# Altium footprint library mw.PcbLib: 123 footprints (part 7 of 8)
Each footprint in its own frame and in the unit in brackets; x right, y up, seen from the top. Pads: shape width x height; smd on the part's side, far side on the other; paste and mask are expansions set on the pad; w line width, h text height; cw(c..) or ccw(c..) is an arc to the next point about the centre after c.
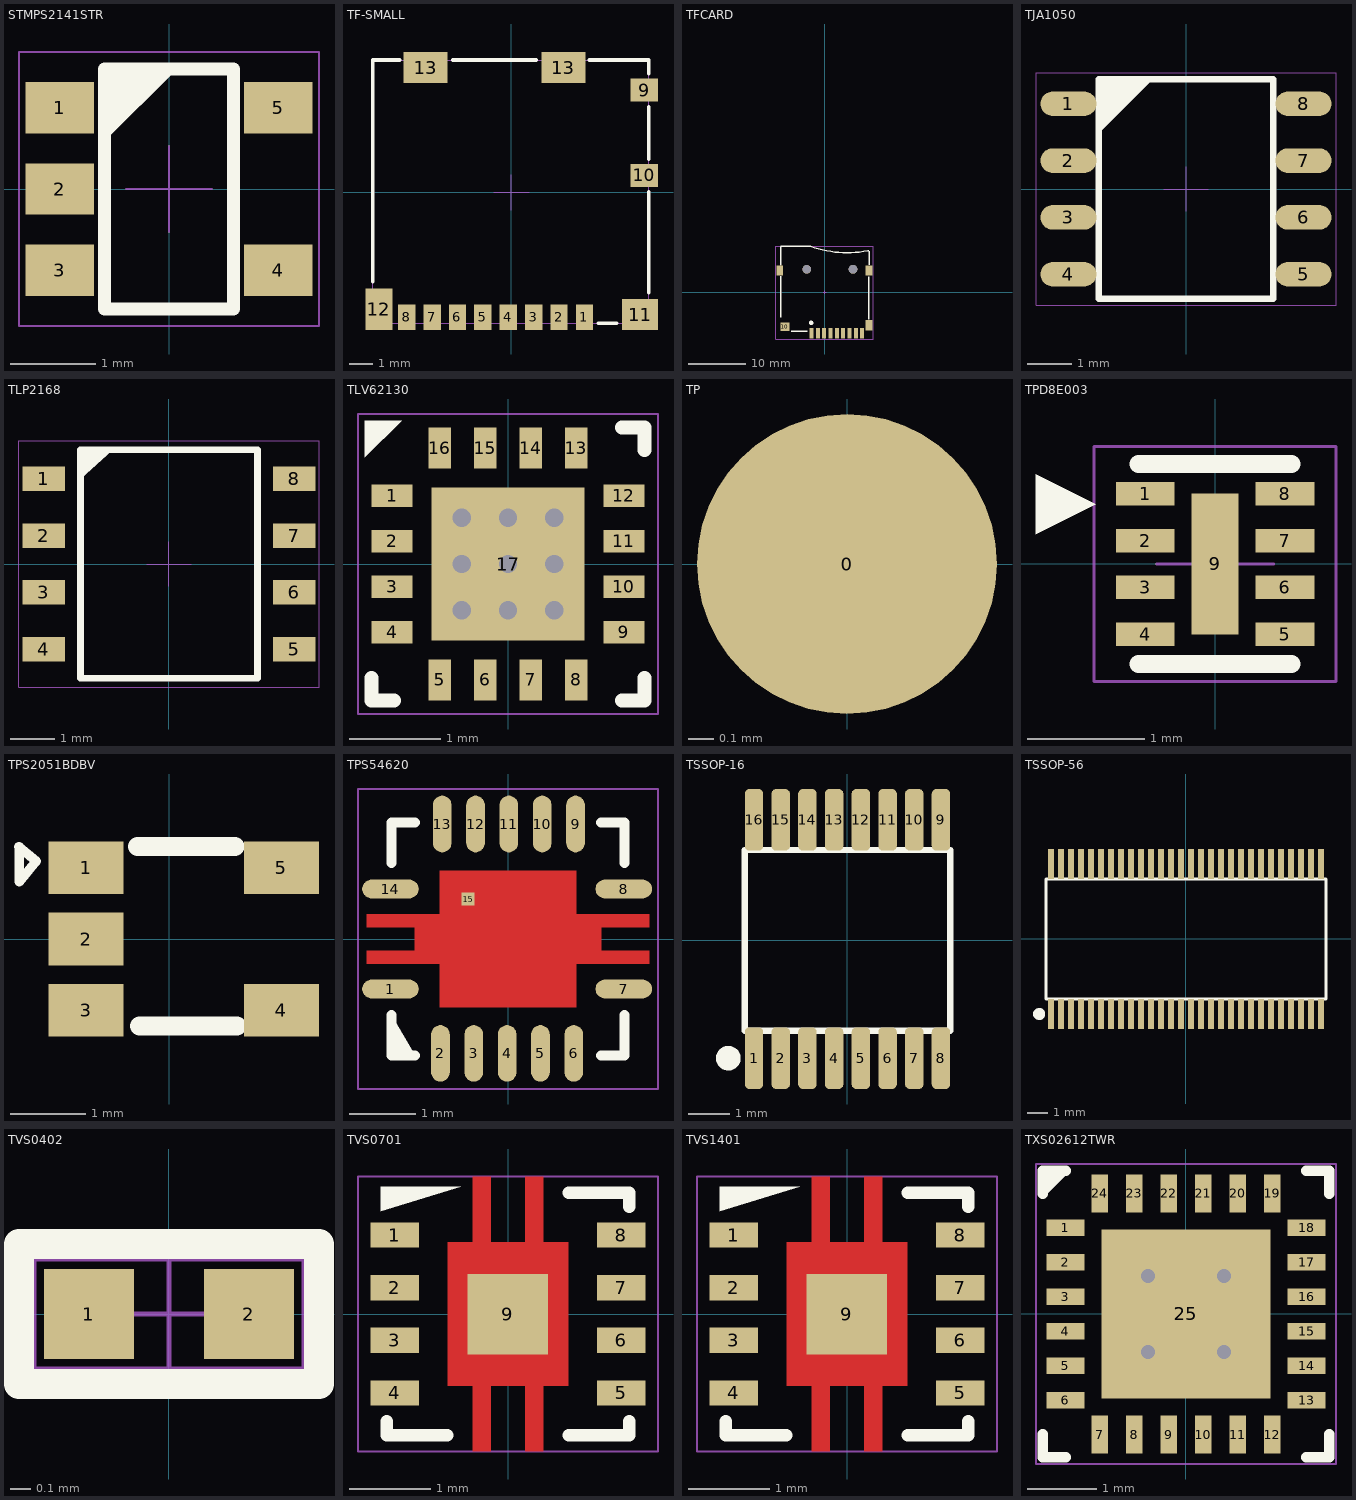
[diagram p6: the footprints below, top view; thin cyan lines are the x and y axes]

## STMPS2141STR [mm] "SOT23, 5-Leads, Body 2.90x2.80mm, Pitch 0.95mm, IPC High Density"
height 0.9
pads (5):
  rect 0.8x0.6 smd: 1(-1.275,0.95) 2(-1.275,0) 3(-1.275,-0.95) 4(1.275,-0.95) 5(1.275,0.95)
Top Overlay:
  region: -0.754,0.555 0.077,1.387 0.077,1.39 -0.741,1.39 -0.749,1.397
  lines w0.152: -0.75,-1.4 -0.75,1.4 0.75,1.4 0.75,-1.4 -0.75,-1.4
Mechanical 15:
  lines w0.025: -0.5,0 0.5,0 ; 0,-0.5 0,0.5 ; -1.75,-1.6 1.75,-1.6 1.75,1.6 -1.75,1.6 -1.75,-1.6

## TF-SMALL [mm]
pads (14):
  rect 0.75x1.1 smd: 1(3.163,-5.412) 2(2.063,-5.412) 3(0.962,-5.412) 4(-0.137,-5.412) 5(-1.237,-5.412) 6(-2.337,-5.412) 7(-3.437,-5.412) 8(-4.537,-5.412)
  rect 1.2x1 smd: 9(5.748,4.438) 10(5.748,0.738)
  rect 1.55x1.35 smd: 11(5.573,-5.287)
  rect 1.17x1.8 smd: 12(-5.747,-5.062)
  rect 1.9x1.35 smd: 13(-3.722,5.413) 13(2.248,5.413)
Top Overlay:
  lines w0.152: -6.008,-3.862 -6.008,5.738 -4.832,5.738 ; -2.532,5.738 1.068,5.738 ; 3.368,5.738 5.942,5.738 5.942,5.138 ; 3.768,-5.662 4.568,-5.662 ; 5.942,-4.337 5.942,0.038 ; 5.942,1.438 5.942,3.712
Mechanical 15:
  lines w0.025: -0.762,0 0.762,0 ; 0,-0.762 0,0.762 ; -6.008,-5.662 -6.008,5.738 5.942,5.738 5.942,-5.662 -6.008,-5.662

## TFCARD [mil]
pads (15):
  rect 27.56x70.87 smd: 1(-92,-280.5) 2(-48.69,-280.5) 3(-5.39,-280.5) 4(37.92,-280.5) 5(81.23,-280.5) 6(124.54,-280.5) 7(167.84,-280.5) 8(211.15,-280.5) 9(254.46,-280.5)
  rect 62.99x59.06 smd: 10(-273.1,-235.22)
  rect 47.24x70.87 smd: 11(301.7,-225.38) 12(301.7,148.63) 13(-308.54,148.63)
  round 59.06 hole 59.06 unplated: ""(-124,156.51) ""(192,156.51)
Top Overlay:
  circle w29.53: c-93.86,-210 r1
  lines w10: -301.54,-172.5 -301.54,107.5 ; -301.54,185.5 -301.54,311.5 ; -301.54,313.5 -98.06,313.5 ccw(c151.13,1000.55) 292.46,283.5 300.46,283.5 ; -231.54,-266.5 -119.54,-266.5 ; 300.46,-184.5 300.46,105.5 ; 302.46,187.5 302.46,281.5
Mechanical 15:
  lines w1: -10,0 10,0 ; 0,-10 0,10 ; -335,-320 -335,315 330,315 330,-320 -335,-320
Multi-Layer:
  circle w1: c-123.5,156.51 r29.64
  circle w1: c191.46,156.51 r29.64

## TJA1050 [mm]
height 1.75
pads (8):
  oval 1.25x0.55 smd: 1(-2.625,1.905) 2(-2.625,0.635) 3(-2.625,-0.635) 4(-2.625,-1.905) 5(2.625,-1.905) 6(2.625,-0.635) 7(2.625,0.635) 8(2.625,1.905)
Top Overlay:
  region: -1.936,2.371 -1.916,2.391 -0.8,2.391 -1.95,1.241
  lines w0.152: -1.95,-2.45 -1.95,2.45 1.95,2.45 1.95,-2.45 -1.95,-2.45
Mechanical 15:
  lines w0.025: -0.5,0 0.5,0 ; 0,-0.5 0,0.5 ; -3.35,-2.6 -3.35,2.6 3.35,2.6 3.35,-2.6 -3.35,-2.6
3D body "tja1050.STEP": height 1.66, standoff 0, extent -3.078,-2.483 3.077,2.417

## TLP2168 [mm]
pads (8):
  rect 0.95x0.55 smd: 1(-2.8,1.905) 2(-2.8,0.635) 3(-2.8,-0.635) 4(-2.8,-1.905) 5(2.8,-1.905) 6(2.8,-0.635) 7(2.8,0.635) 8(2.8,1.905)
Top Overlay:
  region: -1.27,2.54 -1.975,1.905 -1.975,2.55
  lines w0.152: -1.975,-2.55 1.975,-2.55 1.975,2.55 -1.975,2.55 -1.975,-2.55
Mechanical 15:
  lines w0.025: -0.5,0 0.5,0 ; 0,-0.5 0,0.5 ; -3.35,-2.75 3.35,-2.75 3.35,2.75 -3.35,2.75 -3.35,-2.75

## TLV62130 [mm] "PQFN, 16-Leads, Body 3.00x3.00mm, Pitch 0.50mm, Thermal Pad 1.68x1.68mm, IPC High Density"
height 1
pads (17):
  rect 0.45x0.25 smd: 1(-1.275,0.75) 2(-1.275,0.25) 3(-1.275,-0.25) 4(-1.275,-0.75) 9(1.275,-0.75) 10(1.275,-0.25) 11(1.275,0.25) 12(1.275,0.75)
  rect 0.25x0.45 smd: 5(-0.75,-1.275) 6(-0.25,-1.275) 7(0.25,-1.275) 8(0.75,-1.275) 13(0.75,1.275) 14(0.25,1.275) 15(-0.25,1.275) 16(-0.75,1.275)
  rect 1.68x1.68 smd: 17(0,0)
via -0.508,0 diameter 0.45 hole 0.2
via 0,0.508 diameter 0.45 hole 0.2
via -0.508,0.508 diameter 0.45 hole 0.2
via 0.508,0.508 diameter 0.45 hole 0.2
via 0,0 diameter 0.45 hole 0.2
via 0.508,0 diameter 0.45 hole 0.2
via -0.508,-0.508 diameter 0.45 hole 0.2
via 0,-0.508 diameter 0.45 hole 0.2
via 0.508,-0.508 diameter 0.45 hole 0.2
Top Overlay:
  region: -1.17,1.577 -1.575,1.172 -1.575,1.577
  lines w0.152: -1.5,-1.251 -1.5,-1.5 -1.251,-1.5 ; 1.251,-1.5 1.5,-1.5 1.5,-1.251 ; 1.251,1.5 1.5,1.5 1.5,1.251
Mechanical 15:
  lines w0.025: -0.5,0 0.5,0 ; 0,-0.5 0,0.5 ; -1.65,-1.65 1.65,-1.65 1.65,1.65 -1.65,1.65 -1.65,-1.65

## TP [mm]
pads (1):
  round 1.2 smd: 0(0,0)

## TPD8E003 [mm] "SON, 8-Leads, Body 1.70x1.35mm, Pitch 0.40mm, Thermal Pad 1.20x0.40mm, IPC High Density"
height 0.75
pads (9):
  rect 0.5x0.2 smd: 1(-0.595,0.6) 2(-0.595,0.2) 3(-0.595,-0.2) 4(-0.595,-0.6) 5(0.595,-0.6) 6(0.595,-0.2) 7(0.595,0.2) 8(0.595,0.6)
  rect 0.4x1.2 smd: 9(0,0)
Top Overlay:
  region: -1.524,0.762 -1.524,0.254 -1.016,0.508
  lines w0.152: -0.65,-0.85 0.65,-0.85 ; -0.65,0.85 0.65,0.85
Mechanical 15:
  lines w0.025: -0.5,0 0.5,0 ; 0,-0.5 0,0.5 ; -1.03,-1 1.03,-1 1.03,1 -1.03,1 -1.03,-1

## TPS2051BDBV [mm] "TPS2051BDBV"
pads (5):
  rect 1x0.7 smd: 1(-1.104,0.95) 2(-1.104,0) 3(-1.104,-0.95) 4(1.496,-0.95) 5(1.496,0.95)
Top Overlay:
  lines w0.127: -1.996,1.228 -1.768,1.037 -1.993,0.759 -1.993,1.229
  lines w0.254: -0.418,1.229 0.877,1.229 ; -0.393,-1.158 0.903,-1.158

## TPS54620 [mm] "VQFN_3_5"
pads (15):
  oval 0.85x0.28 smd paste-0.04: 1(-1.763,-0.75) 7(1.737,-0.75) 8(1.737,0.75) 14(-1.763,0.75)
  oval 0.28x0.85 smd paste-0.04: 2(-1.013,-1.716) 3(-0.513,-1.716) 4(-0.013,-1.716) 5(0.487,-1.716) 6(0.987,-1.716) 9(1.013,1.725) 10(0.513,1.725) 11(0.013,1.725) 12(-0.487,1.725) 13(-0.987,1.725)
  rect 0.2x0.2 smd paste+0: 15(-0.6,0.6)
Top Layer:
  region: -1.35,-0.175 -2.124,-0.175 -2.124,-0.375 -1.35,-0.375
  region: -1.35,0.375 -2.124,0.375 -2.124,0.175 -1.35,0.175
  region: -1.013,0.375 -1.4,0.375 -1.4,-0.375 -1.013,-0.375
  rectangle: 1.35,0.175 2.125,0.375
  rectangle: 1.35,-0.375 2.125,-0.175
  rectangle: 1.013,-0.375 1.4,0.375
  rectangle: -1.025,-1.025 1.025,1.025
Top Overlay:
  region: -1.753,-1.139 -1.394,-1.75 -1.75,-1.75
  lines w0.152: -1.75,-1.143 -1.75,-1.75 -1.397,-1.75 ; -1.75,1.143 -1.75,1.75 -1.397,1.75 ; 1.397,-1.75 1.75,-1.75 1.75,-1.143 ; 1.397,1.75 1.75,1.75 1.75,1.143
Top Paste:
  rectangle: -1.025,0.15 -0.15,1.027
  region: 0.15,1.025 0.15,0.15 1.027,0.15 1.027,1.025
  region: 1.025,-0.15 0.15,-0.15 0.15,-1.027 1.025,-1.027
  region: -0.15,-1.025 -0.15,-0.15 -1.027,-0.15 -1.027,-1.025
Mechanical 15:
  lines w0.025: -0.254,0 0.254,0 ; 0,-0.254 0,0.254 ; -2.25,-2.25 2.25,-2.25 2.25,2.25 -2.25,2.25 -2.25,-2.25
3D body "tps54620.STEP": height 0.82, standoff 0, extent -1.77,-1.77 1.77,1.77

## TSSOP-16 [mm]
pads (16):
  rrect50% 0.45x1.5 smd: 1(-2.275,-2.866) 2(-1.625,-2.866) 3(-0.975,-2.866) 4(-0.325,-2.866) 5(0.325,-2.866) 6(0.975,-2.866) 7(1.625,-2.866) 8(2.275,-2.866) 9(2.275,2.934) 10(1.625,2.934) 11(0.975,2.934) 12(0.325,2.934) 13(-0.325,2.934) 14(-0.975,2.934) 15(-1.625,2.934) 16(-2.275,2.934)
Top Overlay:
  circle w0.3: c-2.899,-2.866 r0.15
  lines w0.152: -2.5,-2.2 -2.5,2.2 2.5,2.2 2.5,-2.2 -2.5,-2.2

## TSSOP-56 [mm]
pads (56):
  rect 0.3x1.5 smd: 1(-6.75,-3.75) 2(-6.25,-3.75) 3(-5.75,-3.75) 4(-5.25,-3.75) 5(-4.75,-3.75) 6(-4.25,-3.75) 7(-3.75,-3.75) 8(-3.25,-3.75) 9(-2.75,-3.75) 10(-2.25,-3.75) 11(-1.75,-3.75) 12(-1.25,-3.75) 13(-0.75,-3.75) 14(-0.25,-3.75) 15(0.25,-3.75) 16(0.75,-3.75) 17(1.25,-3.75) 18(1.75,-3.75) 19(2.25,-3.75) 20(2.75,-3.75) 21(3.25,-3.75) 22(3.75,-3.75) 23(4.25,-3.75) 24(4.75,-3.75) 25(5.25,-3.75) 26(5.75,-3.75) 27(6.25,-3.75) 28(6.75,-3.75) 29(6.75,3.75) 30(6.25,3.75) 31(5.75,3.75) 32(5.25,3.75) 33(4.75,3.75) 34(4.25,3.75) 35(3.75,3.75) 36(3.25,3.75) 37(2.75,3.75) 38(2.25,3.75) 39(1.75,3.75) 40(1.25,3.75) 41(0.75,3.75) 42(0.25,3.75) 43(-0.25,3.75) 44(-0.75,3.75) 45(-1.25,3.75) 46(-1.75,3.75) 47(-2.25,3.75) 48(-2.75,3.75) 49(-3.25,3.75) 50(-3.75,3.75) 51(-4.25,3.75) 52(-4.75,3.75) 53(-5.25,3.75) 54(-5.75,3.75) 55(-6.25,3.75) 56(-6.75,3.75)
Top Overlay:
  circle w0.3: c-7.342,-3.75 r0.15
  lines w0.152: -7,-3 7,-3 7,3 -7,3 -7,-3

## TVS0402 [mm] "TVS0402"
pads (2):
  rect 0.45x0.45 smd: 1(-0.4,0) 2(0.4,0)
Top Overlay:
  lines w0.152: -0.75,-0.35 0.75,-0.35 0.75,0.35 -0.75,0.35 -0.75,-0.35
Mechanical 15:
  lines w0.025: -0.275,0 0.275,0 ; 0,-0.275 0,0.275 ; -0.674,-0.274 0.674,-0.274 0.674,0.274 -0.674,0.274 -0.674,-0.274

## TVS0701 [mm] "SON, 8-Leads, Body 3.00x3.00mm, Pitch 0.65mm, Thermal Pad 1.20x0.40mm, IPC High Density"
height 1
pads (9):
  rect 0.6x0.31 smd: 1(-1.4,0.975) 2(-1.4,0.325) 3(-1.4,-0.325) 4(-1.4,-0.975) 5(1.4,-0.975) 6(1.4,-0.325) 7(1.4,0.325) 8(1.4,0.975)
  rect 1x1 smd: 9(-0.003,-0.003)
Top Layer:
  rectangle: 0.21,0.875 0.44,1.7
  rectangle: -0.44,0.875 -0.21,1.7
  region: -0.21,-0.875 -0.44,-0.875 -0.44,-1.7 -0.21,-1.7
  region: 0.44,-0.875 0.21,-0.875 0.21,-1.7 0.44,-1.7
  rectangle: -0.75,-0.887 0.75,0.889
Top Overlay:
  region: -0.586,1.575 -1.574,1.575 -1.574,1.27
  lines w0.152: -1.5,-1.328 -1.5,-1.5 -0.75,-1.5 ; 0.75,-1.5 1.5,-1.5 1.5,-1.328 ; 0.75,1.5 1.5,1.5 1.5,1.328
Top Paste:
  rectangle: -0.67,-0.775 0.67,0.775
  rectangle: -0.44,0.975 -0.21,1.7
  rectangle: 0.21,0.975 0.44,1.7
  region: -0.21,-0.975 -0.44,-0.975 -0.44,-1.7 -0.21,-1.7
  region: 0.44,-0.975 0.21,-0.975 0.21,-1.7 0.44,-1.7
Mechanical 15:
  lines w0.025: -0.5,0 0.5,0 ; 0,-0.5 0,0.5 ; -1.855,-1.7 -1.855,1.7 1.855,1.7 1.855,-1.7 -1.855,-1.7

## TVS1401 [mm] "SON, 8-Leads, Body 3.00x3.00mm, Pitch 0.65mm, Thermal Pad 1.20x0.40mm, IPC High Density"
height 1
pads (9):
  rect 0.6x0.31 smd: 1(-1.4,0.975) 2(-1.4,0.325) 3(-1.4,-0.325) 4(-1.4,-0.975) 5(1.4,-0.975) 6(1.4,-0.325) 7(1.4,0.325) 8(1.4,0.975)
  rect 1x1 smd: 9(-0.003,-0.003)
Top Layer:
  rectangle: 0.21,0.875 0.44,1.7
  rectangle: -0.44,0.875 -0.21,1.7
  region: -0.21,-0.875 -0.44,-0.875 -0.44,-1.7 -0.21,-1.7
  region: 0.44,-0.875 0.21,-0.875 0.21,-1.7 0.44,-1.7
  rectangle: -0.75,-0.887 0.75,0.889
Top Overlay:
  region: -0.586,1.575 -1.574,1.575 -1.574,1.27
  lines w0.152: -1.5,-1.328 -1.5,-1.5 -0.75,-1.5 ; 0.75,-1.5 1.5,-1.5 1.5,-1.328 ; 0.75,1.5 1.5,1.5 1.5,1.328
Top Paste:
  rectangle: -0.67,-0.775 0.67,0.775
  rectangle: -0.44,0.975 -0.21,1.7
  rectangle: 0.21,0.975 0.44,1.7
  region: -0.21,-0.975 -0.44,-0.975 -0.44,-1.7 -0.21,-1.7
  region: 0.44,-0.975 0.21,-0.975 0.21,-1.7 0.44,-1.7
Mechanical 15:
  lines w0.025: -0.5,0 0.5,0 ; 0,-0.5 0,0.5 ; -1.855,-1.7 -1.855,1.7 1.855,1.7 1.855,-1.7 -1.855,-1.7

## TXS02612TWR [mm] "PQFN, 24-Leads, Body 4.00x4.00mm, Pitch 0.50mm, Thermal Pad 2.45x2.45mm, IPC High Density"
height 0.8
pads (25):
  rect 0.55x0.24 smd: 1(-1.75,1.25) 2(-1.75,0.75) 3(-1.75,0.25) 4(-1.75,-0.25) 5(-1.75,-0.75) 6(-1.75,-1.25) 13(1.75,-1.25) 14(1.75,-0.75) 15(1.75,-0.25) 16(1.75,0.25) 17(1.75,0.75) 18(1.75,1.25)
  rect 0.24x0.55 smd: 7(-1.25,-1.75) 8(-0.75,-1.75) 9(-0.25,-1.75) 10(0.25,-1.75) 11(0.75,-1.75) 12(1.25,-1.75) 19(1.25,1.75) 20(0.75,1.75) 21(0.25,1.75) 22(-0.25,1.75) 23(-0.75,1.75) 24(-1.25,1.75)
  rect 2.45x2.45 smd: 25(0,0)
via -0.55,0.55 diameter 0.45 hole 0.2
via 0.55,0.55 diameter 0.45 hole 0.2
via -0.55,-0.55 diameter 0.45 hole 0.2
via 0.55,-0.55 diameter 0.45 hole 0.2
Top Overlay:
  region: -1.679,2.075 -2.075,2.075 -2.075,1.679
  lines w0.152: -2.075,-1.746 -2.075,-2.075 -1.746,-2.075 ; -2.075,1.746 -2.075,2.075 -1.746,2.075 ; 1.746,-2.075 2.075,-2.075 2.075,-1.746 ; 1.746,2.075 2.075,2.075 2.075,1.746
Mechanical 15:
  lines w0.025: -0.5,0 0.5,0 ; 0,-0.5 0,0.5 ; -2.175,-2.175 -2.175,2.175 2.175,2.175 2.175,-2.175 -2.175,-2.175
3D body "txs02612rtw.STEP": height 0.81, standoff 0, extent -2.01,-2.007 2.01,2.013